# Altium schematic symbol library SCH - SENSOR - TEMPERATURE - TI LMT87.SchLib: 1 symbol
Pins are listed as number, name and electrical type; pins without a type are passive.

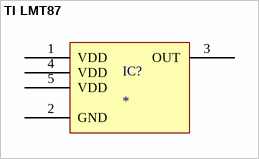
[diagram p0: symbol TI LMT87]

## TI LMT87
designator IC?
pins: 1 VDD, 2 GND, 3 OUT, 4 VDD, 5 VDD